# Altium schematic symbol library SCH - MCU - INFINEON - INFINEON S6E1C31C0XXN2 QFN-48.SchLib: 1 symbol
Pins are listed as number, name and electrical type; pins without a type are passive.

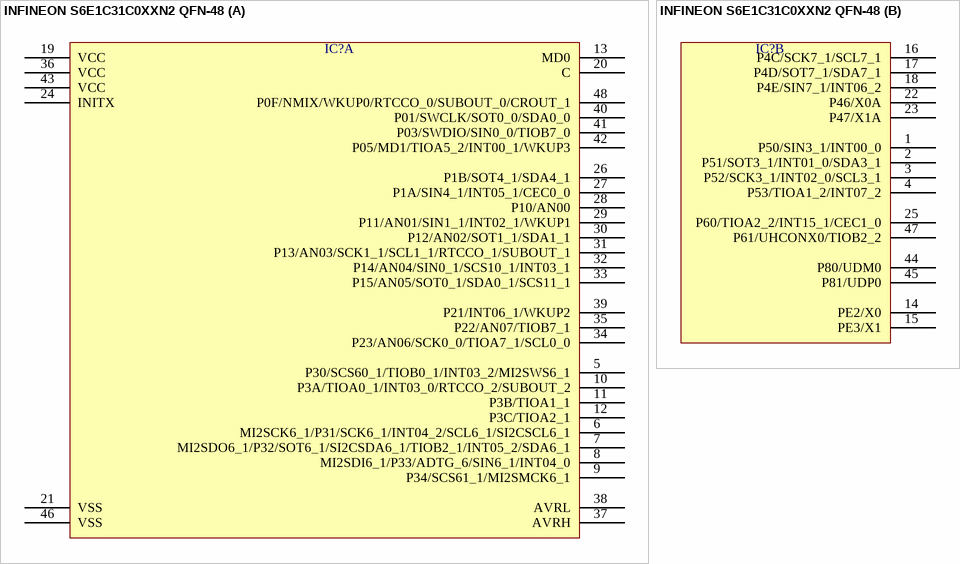
[diagram p0: symbol INFINEON S6E1C31C0XXN2 QFN-48]

## INFINEON S6E1C31C0XXN2 QFN-48
designator IC?  (value not drawn)
part A pins: 5 P30/SCS60_1/TIOB0_1/INT03_2/MI2SWS6_1, 6 MI2SCK6_1/P31/SCK6_1/INT04_2/SCL6_1/SI2CSCL6_1, 7 MI2SDO6_1/P32/SOT6_1/SI2CSDA6_1/TIOB2_1/INT05_2/SDA6_1, 8 MI2SDI6_1/P33/ADTG_6/SIN6_1/INT04_0, 9 P34/SCS61_1/MI2SMCK6_1, 10 P3A/TIOA0_1/INT03_0/RTCCO_2/SUBOUT_2, 11 P3B/TIOA1_1, 12 P3C/TIOA2_1, 13 MD0, 19 VCC, 20 C, 21 VSS, 24 INITX, 26 P1B/SOT4_1/SDA4_1, 27 P1A/SIN4_1/INT05_1/CEC0_0, 28 P10/AN00, 29 P11/AN01/SIN1_1/INT02_1/WKUP1, 30 P12/AN02/SOT1_1/SDA1_1, 31 P13/AN03/SCK1_1/SCL1_1/RTCCO_1/SUBOUT_1, 32 P14/AN04/SIN0_1/SCS10_1/INT03_1, 33 P15/AN05/SOT0_1/SDA0_1/SCS11_1, 34 P23/AN06/SCK0_0/TIOA7_1/SCL0_0, 35 P22/AN07/TIOB7_1, 36 VCC, 37 AVRH, 38 AVRL, 39 P21/INT06_1/WKUP2, 40 P01/SWCLK/SOT0_0/SDA0_0, 41 P03/SWDIO/SIN0_0/TIOB7_0, 42 P05/MD1/TIOA5_2/INT00_1/WKUP3, 43 VCC, 46 VSS, 48 P0F/NMIX/WKUP0/RTCCO_0/SUBOUT_0/CROUT_1
part B pins: 1 P50/SIN3_1/INT00_0, 2 P51/SOT3_1/INT01_0/SDA3_1, 3 P52/SCK3_1/INT02_0/SCL3_1, 4 P53/TIOA1_2/INT07_2, 14 PE2/X0, 15 PE3/X1, 16 P4C/SCK7_1/SCL7_1, 17 P4D/SOT7_1/SDA7_1, 18 P4E/SIN7_1/INT06_2, 22 P46/X0A, 23 P47/X1A, 25 P60/TIOA2_2/INT15_1/CEC1_0, 44 P80/UDM0, 45 P81/UDP0, 47 P61/UHCONX0/TIOB2_2